# Altium footprint library FT-M6678DSK_28nm_0920.PcbLib: 78 footprints (part 3 of 6)
Each footprint in its own frame and in the unit in brackets; x right, y up, seen from the top. Pads: shape width x height; smd on the part's side, far side on the other; paste and mask are expansions set on the pad; w line width, h text height; cw(c..) or ccw(c..) is an arc to the next point about the centre after c.
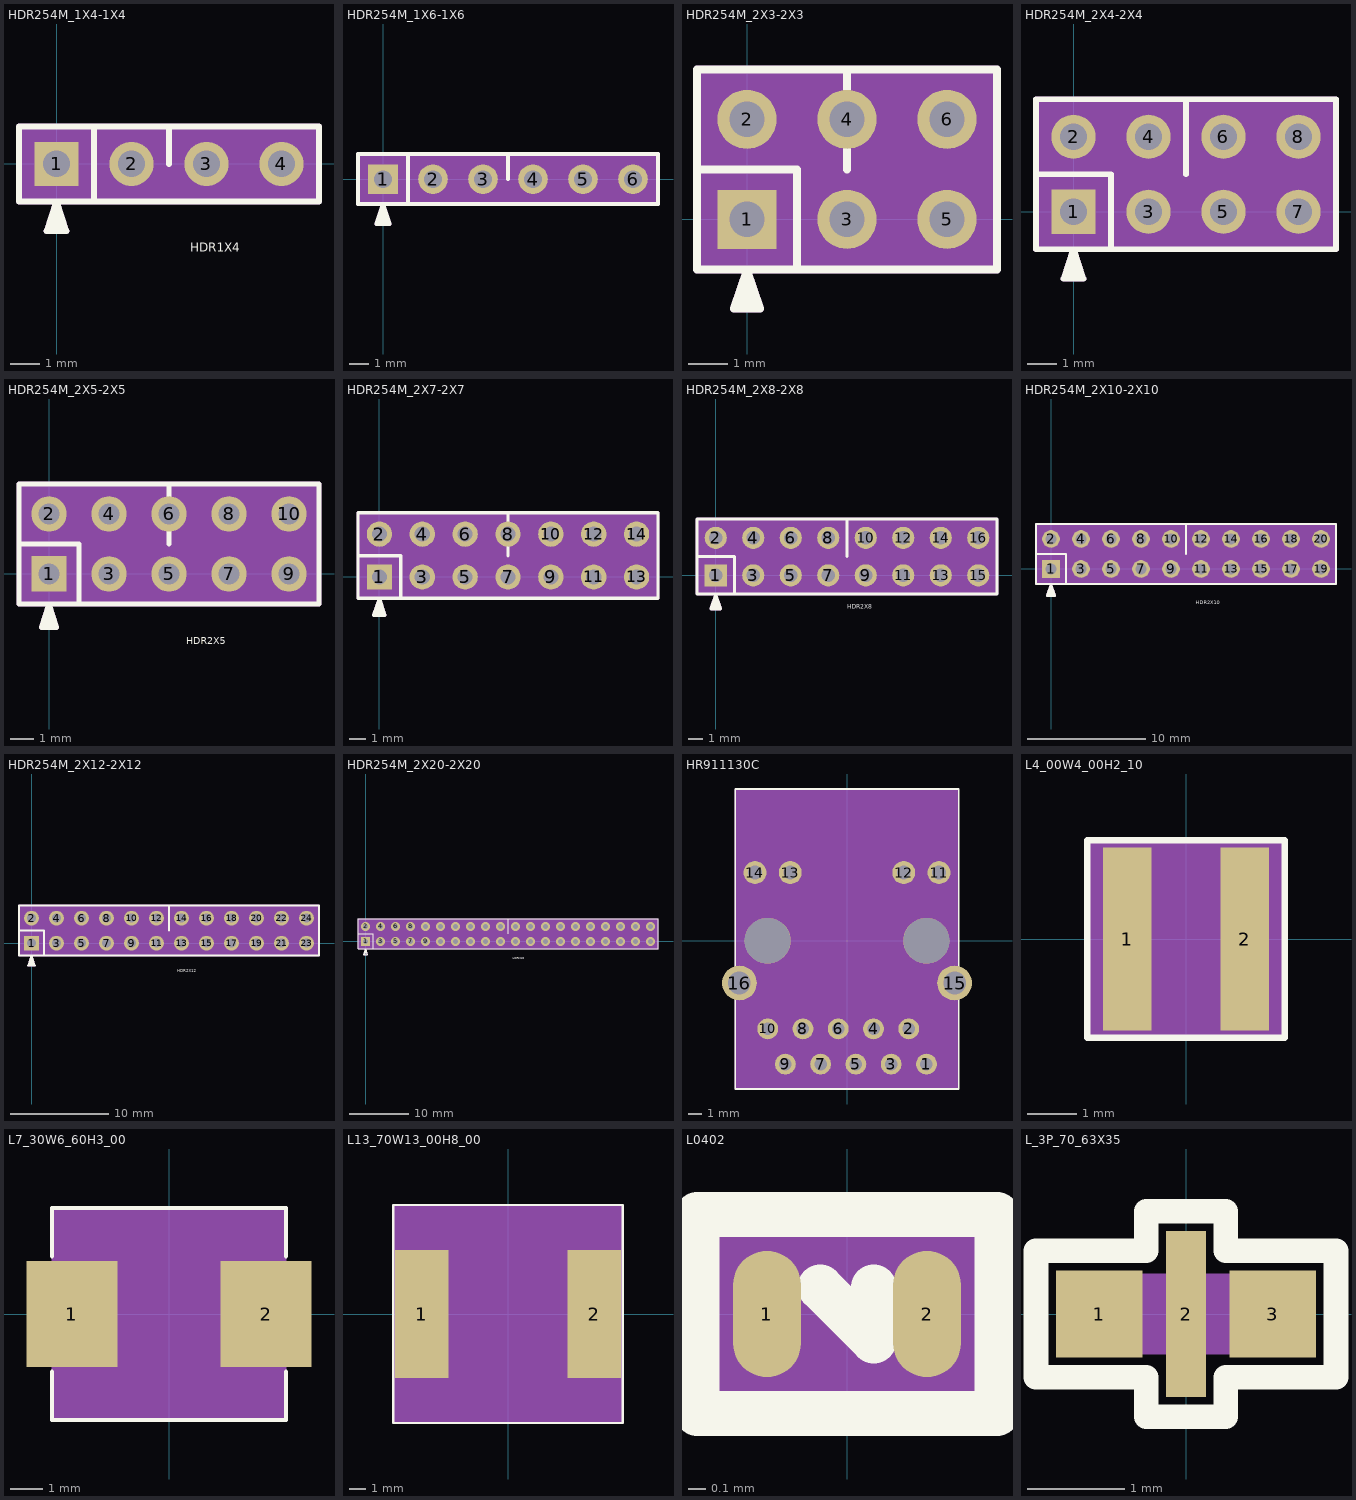
[diagram p2: the footprints below, top view; thin cyan lines are the x and y axes]

## HDR254M_1X4-1X4 [mm] "HDR254M_1X4-1X4"
pads (4):
  rect 1.5x1.5 hole 0.9: 1(0,0)
  round 1.5 hole 0.9: 2(2.54,0) 3(5.08,0) 4(7.62,0)
Top Overlay:
  lines w0.2: -0.133,-2.27 0,-1.27 ; 0.067,-2.27 0,-1.27 ; 0.267,-2.27 0,-1.27 ; 1.27,-1.27 1.27,1.27 ; 3.81,0 3.81,1.27 ; 0,-1.27 -0.333,-2.27 0.333,-2.27 0,-1.27 ; -1.27,-1.27 -1.27,1.27 8.89,1.27 8.89,-1.27 -1.27,-1.27
  text "HDR1X4" at 4.53,-2.97 h0.3
Mechanical 11:
  text "1" at 0.12,-0.2 h0.3
  text "2" at 2.66,-0.2 h0.3
  text "4" at 7.74,-0.2 h0.3
  text "3" at 5.2,-0.2 h0.3
Mechanical 15:
  region: -1.27,-1.27 8.89,-1.27 8.89,1.27 -1.27,1.27
Mechanical 16:
  pour cut-out: -1.27,-1.27 8.89,-1.27 8.89,1.27 -1.27,1.27
  lines w0.2: -0.133,-2.27 0,-1.27 ; 0.067,-2.27 0,-1.27 ; 0.267,-2.27 0,-1.27 ; 1.27,-1.27 1.27,1.27 ; 3.81,0 3.81,1.27 ; 0,-1.27 -0.333,-2.27 0.333,-2.27 0,-1.27 ; -1.27,-1.27 -1.27,1.27 8.89,1.27 8.89,-1.27 -1.27,-1.27
  text ".Designator" at 0.36,-0.2 h0.3
  text "HDR1X4" at 0.72,-0.2 h0.3
  text "RichardLC" at 1.08,-0.2 h0.3
  text "pn" at 0.24,-0.2 h0.3
3D body: height 3.81, standoff 0, extent -1.27,-1.27 8.89,1.27

## HDR254M_1X6-1X6 [mm] "HDR254M_1X6-1X6"
pads (6):
  rect 1.5x1.5 hole 0.9: 1(0,0)
  round 1.5 hole 0.9: 2(2.54,0) 3(5.08,0) 4(7.62,0) 5(10.16,0) 6(12.7,0)
Top Overlay:
  lines w0.2: -0.133,-2.27 0,-1.27 ; 0.067,-2.27 0,-1.27 ; 0.267,-2.27 0,-1.27 ; 1.27,-1.27 1.27,1.27 ; 6.35,0 6.35,1.27 ; 0,-1.27 0.333,-2.27 -0.333,-2.27 0,-1.27 ; -1.27,-1.27 13.97,-1.27 13.97,1.27 -1.27,1.27 -1.27,-1.27
Mechanical 11:
  text "1" at 0.12,0 h0.3
  text "2" at 2.66,0 h0.3
  text "3" at 5.2,0 h0.3
  text "4" at 7.74,0 h0.3
  text "5" at 10.28,0 h0.3
  text "6" at 12.82,0 h0.3
Mechanical 15:
  region: -1.27,-1.27 13.97,-1.27 13.97,1.27 -1.27,1.27
Mechanical 16:
  pour cut-out: -1.27,-1.27 13.97,-1.27 13.97,1.27 -1.27,1.27
  lines w0.2: -0.133,-2.27 0,-1.27 ; 0.067,-2.27 0,-1.27 ; 0.267,-2.27 0,-1.27 ; 1.27,-1.27 1.27,1.27 ; 6.35,0 6.35,1.27 ; 0,-1.27 0.333,-2.27 -0.333,-2.27 0,-1.27 ; -1.27,-1.27 13.97,-1.27 13.97,1.27 -1.27,1.27 -1.27,-1.27
3D body: height 3.81, standoff 0, extent -1.27,-1.27 13.97,1.27

## HDR254M_2X3-2X3 [mm] "HDR254M_2X3-2X3"
pads (6):
  rect 1.5x1.5 hole 0.9: 1(0,0)
  round 1.5 hole 0.9: 2(0,2.54) 3(2.54,0) 4(2.54,2.54) 5(5.08,0) 6(5.08,2.54)
Top Overlay:
  lines w0.2: -1.27,1.27 1.27,1.27 1.27,-1.27 ; -0.133,-2.27 0,-1.27 ; 0.067,-2.27 0,-1.27 ; 0.267,-2.27 0,-1.27 ; 2.54,1.27 2.54,3.81 ; 0,-1.27 0.333,-2.27 -0.333,-2.27 0,-1.27 ; -1.27,-1.27 6.35,-1.27 6.35,3.81 -1.27,3.81 -1.27,-1.27
Mechanical 11:
  text "4" at 2.66,2.34 h0.3
  text "2" at 0.12,2.34 h0.3
  text "3" at 2.66,-0.2 h0.3
  text "1" at 0.12,-0.2 h0.3
  text "6" at 5.2,2.34 h0.3
  text "5" at 5.2,-0.2 h0.3
Mechanical 15:
  region: -1.27,-1.27 6.35,-1.27 6.35,3.81 -1.27,3.81
Mechanical 16:
  pour cut-out: -1.27,-1.27 6.35,-1.27 6.35,3.81 -1.27,3.81
  lines w0.2: -1.27,1.27 1.27,1.27 1.27,-1.27 ; -0.133,-2.27 0,-1.27 ; 0.067,-2.27 0,-1.27 ; 0.267,-2.27 0,-1.27 ; 2.54,1.27 2.54,3.81 ; 0,-1.27 0.333,-2.27 -0.333,-2.27 0,-1.27 ; -1.27,-1.27 6.35,-1.27 6.35,3.81 -1.27,3.81 -1.27,-1.27
  text "RichardLC" at 1.08,-0.2 h0.3
3D body: height 3.81, standoff 0, extent -1.27,-1.27 6.35,3.81

## HDR254M_2X4-2X4 [mm] "HDR254M_2X4-2X4"
pads (8):
  rect 1.5x1.5 hole 0.9: 1(0,0)
  round 1.5 hole 0.9: 2(0,2.54) 3(2.54,0) 4(2.54,2.54) 5(5.08,0) 6(5.08,2.54) 7(7.62,0) 8(7.62,2.54)
Top Overlay:
  lines w0.2: -1.27,1.27 1.27,1.27 1.27,-1.27 ; -0.133,-2.27 0,-1.27 ; 0.067,-2.27 0,-1.27 ; 0.267,-2.27 0,-1.27 ; 3.81,1.27 3.81,3.81 ; 0,-1.27 0.333,-2.27 -0.333,-2.27 0,-1.27 ; -1.27,-1.27 8.89,-1.27 8.89,3.81 -1.27,3.81 -1.27,-1.27
Mechanical 11:
  text "6" at 5.24,2.54 h0.4
  text "5" at 5.24,0 h0.4
  text "4" at 2.7,2.54 h0.4
  text "3" at 2.7,0 h0.4
  text "2" at 0.16,2.54 h0.4
  text "1" at 0.16,0 h0.4
  text "8" at 7.78,2.54 h0.4
  text "7" at 7.78,0 h0.4
Mechanical 15:
  region: -1.27,-1.27 8.89,-1.27 8.89,3.81 -1.27,3.81
Mechanical 16:
  pour cut-out: -1.27,-1.27 8.89,-1.27 8.89,3.81 -1.27,3.81
  lines w0.2: -1.27,1.27 1.27,1.27 1.27,-1.27 ; -0.133,-2.27 0,-1.27 ; 0.067,-2.27 0,-1.27 ; 0.267,-2.27 0,-1.27 ; 3.81,1.27 3.81,3.81 ; 0,-1.27 0.333,-2.27 -0.333,-2.27 0,-1.27 ; -1.27,-1.27 8.89,-1.27 8.89,3.81 -1.27,3.81 -1.27,-1.27
3D body: height 3.81, standoff 0, extent -1.27,-1.27 8.89,3.81

## HDR254M_2X5-2X5 [mm] "HDR254M_2X5-2X5"
pads (10):
  rect 1.5x1.5 hole 0.9: 1(0,0)
  round 1.5 hole 0.9: 2(0,2.54) 3(2.54,0) 4(2.54,2.54) 5(5.08,0) 6(5.08,2.54) 7(7.62,0) 8(7.62,2.54) 9(10.16,0) 10(10.16,2.54)
Top Overlay:
  lines w0.2: -1.27,1.27 1.27,1.27 1.27,-1.27 ; -0.133,-2.27 0,-1.27 ; 0.067,-2.27 0,-1.27 ; 0.267,-2.27 0,-1.27 ; 5.08,1.27 5.08,3.81 ; 0,-1.27 -0.333,-2.27 0.333,-2.27 0,-1.27 ; -1.27,-1.27 -1.27,3.81 11.43,3.81 11.43,-1.27 -1.27,-1.27
  text "HDR2X5" at 5.8,-2.97 h0.3
Mechanical 11:
  text "2" at 0.12,2.34 h0.3
  text "4" at 2.66,2.34 h0.3
  text "6" at 5.2,2.34 h0.3
  text "8" at 7.74,2.34 h0.3
  text "3" at 2.66,-0.2 h0.3
  text "5" at 5.2,-0.2 h0.3
  text "9" at 10.28,-0.2 h0.3
  text "10" at 10.4,2.34 h0.3
  text "1" at 0.12,-0.2 h0.3
  text "7" at 7.74,-0.2 h0.3
Mechanical 15:
  region: -1.27,-1.27 11.43,-1.27 11.43,3.81 -1.27,3.81
Mechanical 16:
  pour cut-out: -1.27,-1.27 11.43,-1.27 11.43,3.81 -1.27,3.81
  lines w0.2: -1.27,1.27 1.27,1.27 1.27,-1.27 ; -0.133,-2.27 0,-1.27 ; 0.067,-2.27 0,-1.27 ; 0.267,-2.27 0,-1.27 ; 5.08,1.27 5.08,3.81 ; 0,-1.27 -0.333,-2.27 0.333,-2.27 0,-1.27 ; -1.27,-1.27 -1.27,3.81 11.43,3.81 11.43,-1.27 -1.27,-1.27
  text ".Designator" at 0.36,-0.2 h0.3
  text "HDR2X5" at 0.72,-0.2 h0.3
  text "RichardLC" at 1.08,-0.2 h0.3
  text "pn" at 0.24,-0.2 h0.3
3D body: height 3.81, standoff 0, extent -1.27,-1.27 11.43,3.81

## HDR254M_2X7-2X7 [mm] "HDR254M_2X7-2X7"
pads (14):
  rect 1.5x1.5 hole 0.9: 1(0,0)
  round 1.5 hole 0.9: 2(0,2.54) 3(2.54,0) 4(2.54,2.54) 5(5.08,0) 6(5.08,2.54) 7(7.62,0) 8(7.62,2.54) 9(10.16,0) 10(10.16,2.54) 11(12.7,0) 12(12.7,2.54) 13(15.24,0) 14(15.24,2.54)
Top Overlay:
  lines w0.2: -1.27,1.27 1.27,1.27 1.27,-1.27 ; -0.133,-2.27 0,-1.27 ; 0.067,-2.27 0,-1.27 ; 0.267,-2.27 0,-1.27 ; 7.62,1.27 7.62,3.81 ; 0,-1.27 0.333,-2.27 -0.333,-2.27 0,-1.27 ; -1.27,-1.27 16.51,-1.27 16.51,3.81 -1.27,3.81 -1.27,-1.27
  text ".Designator" at 13.691,5.258 h0.76
Mechanical 11:
  text "7" at 7.74,0 h0.3
  text "9" at 10.28,0 h0.3
  text "5" at 5.2,0 h0.3
  text "13" at 15.48,0 h0.3
  text "2" at 0.12,2.54 h0.3
  text "1" at 0.12,0 h0.3
  text "14" at 15.48,2.54 h0.3
  text "11" at 12.94,0 h0.3
  text "3" at 2.66,0 h0.3
  text "4" at 2.66,2.54 h0.3
  text "8" at 7.74,2.54 h0.3
  text "10" at 10.4,2.54 h0.3
  text "12" at 12.94,2.54 h0.3
  text "6" at 5.2,2.54 h0.3
Mechanical 15:
  region: -1.27,-1.27 16.51,-1.27 16.51,3.81 -1.27,3.81
Mechanical 16:
  pour cut-out: -1.27,-1.27 16.51,-1.27 16.51,3.81 -1.27,3.81
  lines w0.2: -1.27,1.27 1.27,1.27 1.27,-1.27 ; -0.133,-2.27 0,-1.27 ; 0.067,-2.27 0,-1.27 ; 0.267,-2.27 0,-1.27 ; 7.62,1.27 7.62,3.81 ; 0,-1.27 0.333,-2.27 -0.333,-2.27 0,-1.27 ; -1.27,-1.27 16.51,-1.27 16.51,3.81 -1.27,3.81 -1.27,-1.27
3D body: height 3.81, standoff 0, extent -1.27,-1.27 16.51,3.81

## HDR254M_2X8-2X8 [mm] "HDR254M_2X8-2X8"
pads (16):
  rect 1.5x1.5 hole 0.9: 1(0,0)
  round 1.5 hole 0.9: 2(0,2.54) 3(2.54,0) 4(2.54,2.54) 5(5.08,0) 6(5.08,2.54) 7(7.62,0) 8(7.62,2.54) 9(10.16,0) 10(10.16,2.54) 11(12.7,0) 12(12.7,2.54) 13(15.24,0) 14(15.24,2.54) 15(17.78,0) 16(17.78,2.54)
Top Overlay:
  lines w0.2: -1.27,1.27 1.27,1.27 1.27,-1.27 ; -0.133,-2.27 0,-1.27 ; 0.067,-2.27 0,-1.27 ; 0.267,-2.27 0,-1.27 ; 8.89,1.27 8.89,3.81 ; 0,-1.27 0.333,-2.27 -0.333,-2.27 0,-1.27 ; -1.27,-1.27 19.05,-1.27 19.05,3.81 -1.27,3.81 -1.27,-1.27
  text "HDR2X8" at 8.89,-2.25 h0.3
Mechanical 11:
  text "1" at 0,-0.08 h0.3
  text "9" at 10.16,-0.08 h0.3
  text "8" at 7.62,2.46 h0.3
  text "11" at 12.7,0.04 h0.3
  text "7" at 7.62,-0.08 h0.3
  text "12" at 12.7,2.58 h0.3
  text "6" at 5.08,2.46 h0.3
  text "5" at 5.08,-0.08 h0.3
  text "14" at 15.24,2.58 h0.3
  text "13" at 15.24,0.04 h0.3
  text "16" at 17.78,2.58 h0.3
  text "15" at 17.78,0.04 h0.3
  text "4" at 2.54,2.46 h0.3
  text "10" at 10.16,2.58 h0.3
  text "3" at 2.54,-0.08 h0.3
  text "2" at 0,2.46 h0.3
Mechanical 15:
  region: -1.27,-1.27 19.05,-1.27 19.05,3.81 -1.27,3.81
Mechanical 16:
  pour cut-out: -1.27,-1.27 19.05,-1.27 19.05,3.81 -1.27,3.81
  lines w0.2: -1.27,1.27 1.27,1.27 1.27,-1.27 ; -0.133,-2.27 0,-1.27 ; 0.067,-2.27 0,-1.27 ; 0.267,-2.27 0,-1.27 ; 8.89,1.27 8.89,3.81 ; 0,-1.27 0.333,-2.27 -0.333,-2.27 0,-1.27 ; -1.27,-1.27 19.05,-1.27 19.05,3.81 -1.27,3.81 -1.27,-1.27
  text "pn" at 0,0.04 h0.3
  text "RichardLC" at 0,0.88 h0.3
  text "HDR2X8" at 0,0.52 h0.3
  text ".Designator" at 0,0.16 h0.3
3D body: height 3.81, standoff 0, extent -1.27,-1.27 19.05,3.81

## HDR254M_2X10-2X10 [mm] "HDR254M_2X10-2X10"
pads (20):
  rect 1.5x1.5 hole 0.9: 1(0,0)
  round 1.5 hole 0.9: 2(0,2.54) 3(2.54,0) 4(2.54,2.54) 5(5.08,0) 6(5.08,2.54) 7(7.62,0) 8(7.62,2.54) 9(10.16,0) 10(10.16,2.54) 11(12.7,0) 12(12.7,2.54) 13(15.24,0) 14(15.24,2.54) 15(17.78,0) 16(17.78,2.54) 17(20.32,0) 18(20.32,2.54) 19(22.86,0) 20(22.86,2.54)
Top Overlay:
  lines w0.2: -1.27,1.27 1.27,1.27 1.27,-1.27 ; -0.133,-2.27 0,-1.27 ; 0.067,-2.27 0,-1.27 ; 0.267,-2.27 0,-1.27 ; 11.43,1.27 11.43,3.81 ; 0,-1.27 -0.333,-2.27 0.333,-2.27 0,-1.27 ; -1.27,-1.27 -1.27,3.81 24.13,3.81 24.13,-1.27 -1.27,-1.27
  text "HDR2X10" at 12.27,-2.97 h0.3
Mechanical 11:
  text "12" at 12.94,2.34 h0.3
  text "11" at 12.94,-0.2 h0.3
  text "8" at 7.74,2.34 h0.3
  text "2" at 0.12,2.34 h0.3
  text "9" at 10.28,-0.2 h0.3
  text "10" at 10.4,2.34 h0.3
  text "19" at 23.1,-0.2 h0.3
  text "20" at 23.1,2.34 h0.3
  text "7" at 7.74,-0.2 h0.3
  text "6" at 5.2,2.34 h0.3
  text "5" at 5.2,-0.2 h0.3
  text "4" at 2.66,2.34 h0.3
  text "1" at 0.12,-0.2 h0.3
  text "3" at 2.66,-0.2 h0.3
  text "18" at 20.56,2.34 h0.3
  text "17" at 20.56,-0.2 h0.3
  text "16" at 18.02,2.34 h0.3
  text "15" at 18.02,-0.2 h0.3
  text "13" at 15.48,-0.2 h0.3
  text "14" at 15.48,2.34 h0.3
Mechanical 15:
  region: -1.27,-1.27 24.13,-1.27 24.13,3.81 -1.27,3.81
Mechanical 16:
  pour cut-out: -1.27,-1.27 24.13,-1.27 24.13,3.81 -1.27,3.81
  lines w0.2: -1.27,1.27 1.27,1.27 1.27,-1.27 ; -0.133,-2.27 0,-1.27 ; 0.067,-2.27 0,-1.27 ; 0.267,-2.27 0,-1.27 ; 11.43,1.27 11.43,3.81 ; 0,-1.27 -0.333,-2.27 0.333,-2.27 0,-1.27 ; -1.27,-1.27 -1.27,3.81 24.13,3.81 24.13,-1.27 -1.27,-1.27
  text ".Designator" at 0.36,-0.2 h0.3
  text "HDR2X10" at 0.84,-0.2 h0.3
  text "RichardLC" at 1.08,-0.2 h0.3
  text "pn" at 0.24,-0.2 h0.3
3D body: height 3.81, standoff 0, extent -1.27,-1.27 24.13,3.81

## HDR254M_2X12-2X12 [mm] "HDR254M_2X12-2X12"
pads (24):
  rect 1.5x1.5 hole 0.9: 1(0,0)
  round 1.5 hole 0.9: 2(0,2.54) 3(2.54,0) 4(2.54,2.54) 5(5.08,0) 6(5.08,2.54) 7(7.62,0) 8(7.62,2.54) 9(10.16,0) 10(10.16,2.54) 11(12.7,0) 12(12.7,2.54) 13(15.24,0) 14(15.24,2.54) 15(17.78,0) 16(17.78,2.54) 17(20.32,0) 18(20.32,2.54) 19(22.86,0) 20(22.86,2.54) 21(25.4,0) 22(25.4,2.54) 23(27.94,0) 24(27.94,2.54)
Top Overlay:
  lines w0.2: -1.27,1.27 1.27,1.27 1.27,-1.27 ; -0.133,-2.27 0,-1.27 ; 0.067,-2.27 0,-1.27 ; 0.267,-2.27 0,-1.27 ; 13.97,1.27 13.97,3.81 ; 0,-1.27 0.333,-2.27 -0.333,-2.27 0,-1.27 ; -1.27,-1.27 29.21,-1.27 29.21,3.81 -1.27,3.81 -1.27,-1.27
  text "HDR2X12" at 14.81,-2.97 h0.3
Mechanical 11:
  text "1" at 0.12,-0.2 h0.3
  text "24" at 28.18,2.34 h0.3
  text "22" at 25.64,2.34 h0.3
  text "23" at 28.18,-0.2 h0.3
  text "21" at 25.64,-0.2 h0.3
  text "20" at 23.1,2.34 h0.3
  text "18" at 20.56,2.34 h0.3
  text "14" at 15.48,2.34 h0.3
  text "12" at 12.94,2.34 h0.3
  text "8" at 7.74,2.34 h0.3
  text "6" at 5.2,2.34 h0.3
  text "19" at 23.1,-0.2 h0.3
  text "17" at 20.56,-0.2 h0.3
  text "13" at 15.48,-0.2 h0.3
  text "11" at 12.94,-0.2 h0.3
  text "7" at 7.74,-0.2 h0.3
  text "5" at 5.2,-0.2 h0.3
  text "16" at 18.02,2.34 h0.3
  text "10" at 10.4,2.34 h0.3
  text "4" at 2.66,2.34 h0.3
  text "2" at 0.12,2.34 h0.3
  text "15" at 18.02,-0.2 h0.3
  text "9" at 10.28,-0.2 h0.3
  text "3" at 2.66,-0.2 h0.3
Mechanical 15:
  region: -1.27,-1.27 29.21,-1.27 29.21,3.81 -1.27,3.81
Mechanical 16:
  pour cut-out: -1.27,-1.27 29.21,-1.27 29.21,3.81 -1.27,3.81
  lines w0.2: -1.27,1.27 1.27,1.27 1.27,-1.27 ; -0.133,-2.27 0,-1.27 ; 0.067,-2.27 0,-1.27 ; 0.267,-2.27 0,-1.27 ; 13.97,1.27 13.97,3.81 ; 0,-1.27 0.333,-2.27 -0.333,-2.27 0,-1.27 ; -1.27,-1.27 29.21,-1.27 29.21,3.81 -1.27,3.81 -1.27,-1.27
  text "pn" at 0.24,-0.2 h0.3
  text "RichardLC" at 1.08,-0.2 h0.3
  text "HDR2X12" at 0.84,-0.2 h0.3
  text ".Designator" at 0.24,-0.2 h0.3
3D body: height 3.81, standoff 0, extent -1.27,-1.27 29.21,3.81

## HDR254M_2X20-2X20 [mm] "HDR254M_2X20-2X20"
pads (40):
  rect 1.5x1.5 hole 0.9: 1(0,0)
  round 1.5 hole 0.9: 2(0,2.54) 3(2.54,0) 4(2.54,2.54) 5(5.08,0) 6(5.08,2.54) 7(7.62,0) 8(7.62,2.54) 9(10.16,0) 10(10.16,2.54) 11(12.7,0) 12(12.7,2.54) 13(15.24,0) 14(15.24,2.54) 15(17.78,0) 16(17.78,2.54) 17(20.32,0) 18(20.32,2.54) 19(22.86,0) 20(22.86,2.54) 21(25.4,0) 22(25.4,2.54) 23(27.94,0) 24(27.94,2.54) 25(30.48,0) 26(30.48,2.54) 27(33.02,0) 28(33.02,2.54) 29(35.56,0) 30(35.56,2.54) 31(38.1,0) 32(38.1,2.54) 33(40.64,0) 34(40.64,2.54) 35(43.18,0) 36(43.18,2.54) 37(45.72,0) 38(45.72,2.54) 39(48.26,0) 40(48.26,2.54)
Top Overlay:
  lines w0.2: -1.27,1.27 1.27,1.27 1.27,-1.27 ; -0.133,-2.27 0,-1.27 ; 0.067,-2.27 0,-1.27 ; 0.267,-2.27 0,-1.27 ; 24.13,1.27 24.13,3.81 ; 0,-1.27 -0.333,-2.27 0.333,-2.27 0,-1.27 ; -1.27,-1.27 -1.27,3.81 49.53,3.81 49.53,-1.27 -1.27,-1.27
  text ".Designator" at 24.867,-2.032 h0.76
  text "HDR2X20" at 24.97,-2.97 h0.3
Mechanical 11:
  text "16" at 18.02,2.54 h0.3
  text "15" at 18.02,0 h0.3
  text "3" at 2.66,0 h0.3
  text "2" at 0.12,2.54 h0.3
  text "1" at 0.12,0 h0.3
  text "37" at 45.96,0 h0.3
  text "8" at 7.74,2.54 h0.3
  text "7" at 7.74,0 h0.3
  text "6" at 5.2,2.54 h0.3
  text "5" at 5.2,0 h0.3
  text "4" at 2.66,2.54 h0.3
  text "39" at 48.5,0 h0.3
  text "40" at 48.5,2.54 h0.3
  text "17" at 20.56,0 h0.3
  text "35" at 43.42,0 h0.3
  text "18" at 20.56,2.54 h0.3
  text "36" at 43.42,2.54 h0.3
  text "21" at 25.64,0 h0.3
  text "25" at 30.72,0 h0.3
  text "28" at 33.26,2.54 h0.3
  text "30" at 35.8,2.54 h0.3
  text "31" at 38.34,0 h0.3
  text "19" at 23.1,0 h0.3
  text "32" at 38.34,2.54 h0.3
  text "20" at 23.1,2.54 h0.3
  text "23" at 28.18,0 h0.3
  text "24" at 28.18,2.54 h0.3
  text "34" at 40.88,2.54 h0.3
  text "29" at 35.8,0 h0.3
  text "27" at 33.26,0 h0.3
  text "33" at 40.88,0 h0.3
  text "26" at 30.72,2.54 h0.3
  text "22" at 25.64,2.54 h0.3
  text "14" at 15.48,2.54 h0.3
  text "13" at 15.48,0 h0.3
  text "12" at 12.94,2.54 h0.3
  text "11" at 12.94,0 h0.3
  text "10" at 10.4,2.54 h0.3
  text "38" at 45.96,2.54 h0.3
  text "9" at 10.28,0 h0.3
Mechanical 15:
  region: -1.27,-1.27 49.53,-1.27 49.53,3.81 -1.27,3.81
Mechanical 16:
  pour cut-out: -1.27,-1.27 49.53,-1.27 49.53,3.81 -1.27,3.81
  lines w0.2: -1.27,1.27 1.27,1.27 1.27,-1.27 ; -0.133,-2.27 0,-1.27 ; 0.067,-2.27 0,-1.27 ; 0.267,-2.27 0,-1.27 ; 24.13,1.27 24.13,3.81 ; 0,-1.27 -0.333,-2.27 0.333,-2.27 0,-1.27 ; -1.27,-1.27 -1.27,3.81 49.53,3.81 49.53,-1.27 -1.27,-1.27
  text "pn" at 0.24,-0.2 h0.3
  text "RichardLC" at 1.08,-0.2 h0.3
  text "HDR2X20" at 0.84,-0.2 h0.3
3D body: height 3.81, standoff 0, extent -1.27,-1.27 49.53,3.81

## HR911130C [mm] "HR911130C"
pads (18):
  round 1.5 hole 0.9: 1(5.72,-8.89) 2(4.45,-6.35) 3(3.18,-8.89) 4(1.91,-6.35) 5(0.64,-8.89) 6(-0.63,-6.35) 7(-1.9,-8.89) 8(-3.17,-6.35) 9(-4.44,-8.89) 10(-5.71,-6.35)
  round 1.65 hole 1: 11(6.625,4.9) 12(4.085,4.9) 13(-4.085,4.9) 14(-6.625,4.9)
  round 2.5 hole 1.63: 15(7.745,-3.05) 16(-7.745,-3.05)
  round 3.3 hole 3.3: " "(-5.715,0) " "(5.715,0)
Top Overlay:
  lines w0.127: -8.05,-10.68 -8.05,10.92 8.05,10.92 8.05,-10.68 -8.05,-10.68
Mechanical 11:
  text "14" at -6.625,5.14 h0.3
  text "11" at 6.625,5.14 h0.3
  text "1" at 5.72,-8.77 h0.3
  text "12" at 4.085,5.14 h0.3
  text "13" at -4.085,5.14 h0.3
  text "6" at -0.63,-6.23 h0.3
  text "9" at -4.44,-8.77 h0.3
  text "7" at -1.9,-8.77 h0.3
  text "8" at -3.17,-6.23 h0.3
  text "4" at 1.91,-6.23 h0.3
  text "5" at 0.64,-8.77 h0.3
  text "2" at 4.45,-6.23 h0.3
  text "3" at 3.18,-8.77 h0.3
  text "10" at -5.71,-6.11 h0.3
  text "16" at -7.745,-2.81 h0.3
  text "15" at 7.745,-2.81 h0.3
Mechanical 15:
  region: -8.08,10.92 -8.08,-10.68 8.02,-10.68 8.02,10.92
3D body: height 3.81, standoff 0, extent -8.08,-10.68 8.02,10.92

## L4_00W4_00H2_10 [mm] "L4_00W4_00H2_10"
pads (2):
  rect 0.98x3.7 smd: 1(-1.185,0) 2(1.185,0)
Top Overlay:
  lines w0.127: -2,-2 2,-2 2,2 -2,2 -2,-2
Mechanical 11:
  text "2" at 1.185,0.12 h0.3
  text "1" at -1.185,0.12 h0.3
Mechanical 15:
  region: -2,-2 2,-2 2,2 -2,2
3D body: height 3.81, standoff 0, extent -2,-2 2,2

## L7_30W6_60H3_00 [mil] "L7_30W6_60H3_00"
pads (2):
  rect 112.01x130 smd: 1(-119.02,0) 2(119.02,0)
Top Overlay:
  lines w5: -143.7,-70.87 -143.7,-129.92 143.7,-129.92 143.7,-70.87 ; -143.7,70.87 -143.7,129.92 143.7,129.92 143.7,70.87
Mechanical 11:
  text "1" at -119.02,4.72 h11.81
  text "2" at 119.02,4.72 h11.81
Mechanical 15:
  region: -143.7,-129.92 143.7,-129.92 143.7,129.92 -143.7,129.92
3D body: height 150, standoff 0, extent -143.7,-129.92 143.7,129.92

## L13_70W13_00H8_00 [mm] "L13_70W13_00H8_00"
pads (2):
  rect 3.18x7.62 smd: 1(-5.145,0) 2(5.145,0)
Top Overlay:
  lines w0.127: -6.85,-6.5 6.85,-6.5 6.85,6.5 -6.85,6.5 -6.85,-6.5
Mechanical 11:
  text "1" at -5.145,-0.051 h0.13
  text "2" at 5.145,-0.051 h0.13
Mechanical 15:
  region: -6.85,-6.5 6.85,-6.5 6.85,6.5 -6.85,6.5
3D body: height 3.81, standoff 0, extent -6.85,-6.5 6.85,6.5

## L0402 [mil] "L0402"
pads (2):
  oval 15x28 smd: 1(-17.72,0) 2(17.72,0)
Top Overlay:
  lines w10: -5.91,5.91 5.91,-5.91 5.91,5.91 ; -33.22,-22 33.22,-22 33.22,22 -33.22,22 -33.22,-22
Mechanical 11:
  text "2" at 22.44,0 h11.81
  text "1" at -13,0 h11.81
Mechanical 12:
  lines w1: -19.68,-9.84 -19.68,9.84 19.68,9.84 19.68,-9.84 -19.68,-9.84
Mechanical 15:
  region: -19.68,-9.84 19.69,-9.84 19.69,9.84 -19.68,9.84
Mechanical 16:
  pour cut-out: -33.22,-22 33.22,-22 33.22,22 -33.22,22
3D body: height 150, standoff 0, extent -19.68,-9.84 19.69,9.84

## L_3P_70_63X35 [mil] "L_3P_70_63X35"
pads (3):
  rect 35x35 smd: 1(-35.04,0) 3(35.04,0)
  rect 16x67 smd: 2(0,0)
Top Overlay:
  lines w10: -60.54,-25.5 -60.54,25.5 -16,25.5 -16,41.5 16,41.5 16,25.5 60.54,25.5 60.54,-25.5 16,-25.5 16,-41.5 -16,-41.5 -16,-25.5 -60.54,-25.5
Mechanical 11:
  text "2" at -4.72,0 h11.81
  text "1" at -39.76,0 h11.81
  text "3" at 30.32,0 h11.81
Mechanical 12:
  lines w1: -31.5,-15.75 -31.5,15.75 31.5,15.75 31.5,-15.75 -31.5,-15.75
Mechanical 13:
  region: -31.5,-15.75 -31.5,15.75 31.5,15.75 31.5,-15.75
3D body: height 150, standoff 0, extent -31.5,-15.75 31.5,15.75